# EAGLE library part MC9S08SH8-20* (library freescale-hcs08)
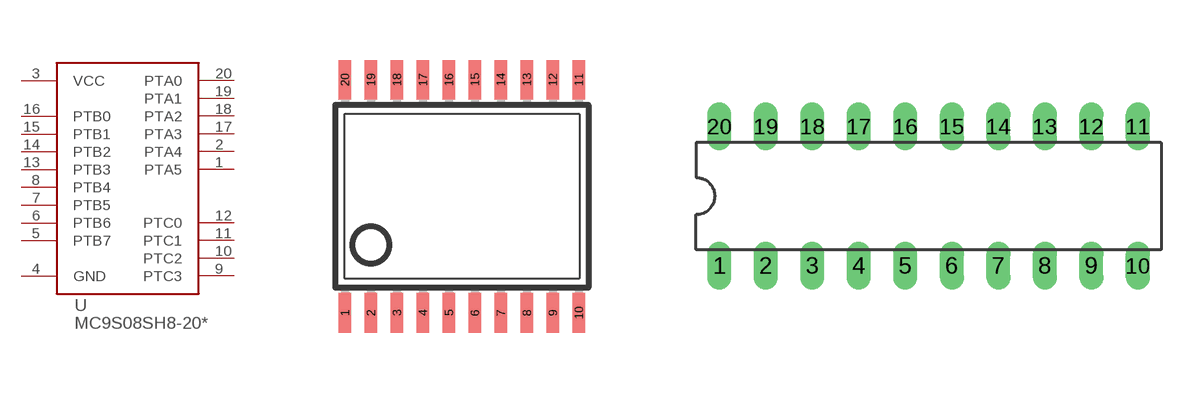
[diagram p9: symbol with the pads of TSSOP20; footprints TSSOP20, DIL20]

Designator prefix -

## MC9S08SH8-20CTG  [TSSOP20]
1  PTA5
2  PTA4
3  VCC
4  GND
5  PTB7
6  PTB6
7  PTB5
8  PTB4
9  PTC3
10  PTC2
11  PTC1
12  PTC0
13  PTB3
14  PTB2
15  PTB1
16  PTB0
17  PTA3
18  PTA2
19  PTA1
20  PTA0

## MC9S08SH8-20CPJ  [DIL20]
Pads as for TSSOP20

## Footprint TSSOP20 (pad centres in mm)
Thin Shrink Small Outline Plastic 20 MAX3223-MAX3243.pdf
smd 0.305 x 0.991: 1 -2.925,-2.918; 2 -2.275,-2.918; 3 -1.625,-2.918; 4 -0.975,-2.918; 5 -0.325,-2.918; 6 0.325,-2.918; 7 0.975,-2.918; 8 1.625,-2.918; 9 2.275,-2.918; 10 2.925,-2.918; 11 2.925,2.918; 12 2.275,2.918; 13 1.625,2.918; 14 0.975,2.918; 15 0.325,2.918; 16 -0.325,2.918; 17 -0.975,2.918; 18 -1.625,2.918; 19 -2.275,2.918; 20 -2.925,2.918

## Footprint DIL20 (pad centres in mm)
Dual In Line Package
drill 0.813 long: 1 -11.43,-3.81; 2 -8.89,-3.81; 3 -6.35,-3.81; 4 -3.81,-3.81; 5 -1.27,-3.81; 6 1.27,-3.81; 7 3.81,-3.81; 8 6.35,-3.81; 9 8.89,-3.81; 10 11.43,-3.81; 11 11.43,3.81; 12 8.89,3.81; 13 6.35,3.81; 14 3.81,3.81; 15 1.27,3.81; 16 -1.27,3.81; 17 -3.81,3.81; 18 -6.35,3.81; 19 -8.89,3.81; 20 -11.43,3.81